# Altium footprint library LED3mm.PcbLib: 1 footprints
Each footprint in its own frame and in the unit in brackets; x right, y up, seen from the top. Pads: shape width x height; smd on the part's side, far side on the other; paste and mask are expansions set on the pad; w line width, h text height; cw(c..) or ccw(c..) is an arc to the next point about the centre after c.
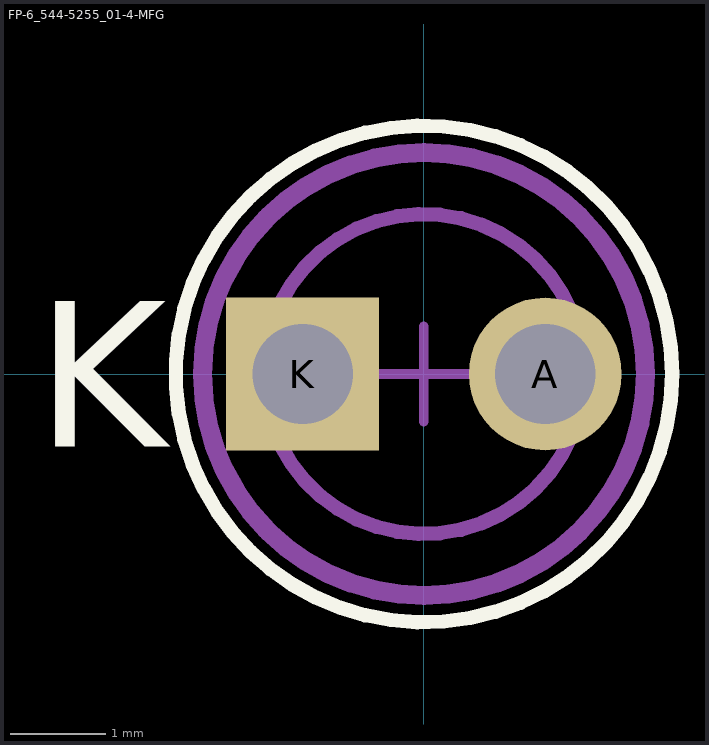
[diagram p0: the footprint, top view; thin cyan lines are the x and y axes]

## FP-6_544-5255_01-4-MFG [mm]
pads (2):
  round 1.6 hole 1.05 paste-1000 mask+0: A(1.27,0)
  rect 1.6x1.6 hole 1.05 paste-1000 mask+0: K(-1.27,0)
Top Overlay:
  circle w0.15: c0,0 r2.6
  text "K" at -4.064,-0.762 h1.52
  text ".Designator" at -3.937,3.683 h1.52
Top Assembly:
  text ".Comment" at -3.854,-3.525 h1
Top 3D Body:
  circle w0.15: c0,0 r1.675
Top Courtyard:
  lines w0.2: -2.319,0 cw(c0,0) 2.319,0 cw(c0,0) -2.319,0
Top Component Center:
  lines w0.1: -0.5,0 0.5,0 ; 0,-0.5 0,0.5
3D body "Diode_Vishay_TLLG4401_eec.STEP": height 0.25, standoff 0, extent -2.319,-2.319 2.319,2.319